# Altium footprint library FreedomKL25Z.PcbLib: 1 footprints
Each footprint in its own frame and in the unit in brackets; x right, y up, seen from the top. Pads: shape width x height; smd on the part's side, far side on the other; paste and mask are expansions set on the pad; w line width, h text height; cw(c..) or ccw(c..) is an arc to the next point about the centre after c.
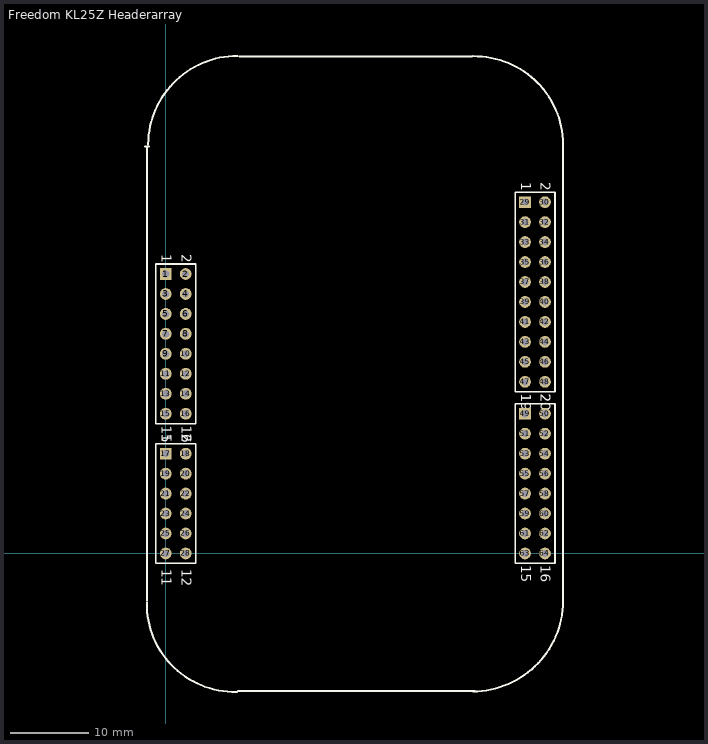
[diagram p0: the footprint, top view; thin cyan lines are the x and y axes]

## Freedom KL25Z Headerarray [mm] "Headerarray KL25Z Shield"
pads (64):
  rect 1.5x1.5 hole 0.9: 1(0,35.56) 17(0,12.7) 29(45.72,44.704) 49(45.72,17.78)
  round 1.5 hole 0.9: 2(2.54,35.56) 3(0,33.02) 4(2.54,33.02) 5(0,30.48) 6(2.54,30.48) 7(0,27.94) 8(2.54,27.94) 9(0,25.4) 10(2.54,25.4) 11(0,22.86) 12(2.54,22.86) 13(0,20.32) 14(2.54,20.32) 15(0,17.78) 16(2.54,17.78) 18(2.54,12.7) 19(0,10.16) 20(2.54,10.16) 21(0,7.62) 22(2.54,7.62) 23(0,5.08) 24(2.54,5.08) 25(0,2.54) 26(2.54,2.54) 27(0,0) 28(2.54,0) 30(48.26,44.704) 31(45.72,42.164) 32(48.26,42.164) 33(45.72,39.624) 34(48.26,39.624) 35(45.72,37.084) 36(48.26,37.084) 37(45.72,34.544) 38(48.26,34.544) 39(45.72,32.004) 40(48.26,32.004) 41(45.72,29.464) 42(48.26,29.464) 43(45.72,26.924) 44(48.26,26.924) 45(45.72,24.384) 46(48.26,24.384) 47(45.72,21.844) 48(48.26,21.844) 50(48.26,17.78) 51(45.72,15.24) 52(48.26,15.24) 53(45.72,12.7) 54(48.26,12.7) 55(45.72,10.16) 56(48.26,10.16) 57(45.72,7.62) 58(48.26,7.62) 59(45.72,5.08) 60(48.26,5.08) 61(45.72,2.54) 62(48.26,2.54) 63(45.72,0) 64(48.26,0)
Top Overlay:
  lines w0.2: -1.27,-1.27 3.81,-1.27 3.81,13.97 -1.27,13.97 -1.27,-1.27 ; -1.27,16.51 -1.27,36.83 3.81,36.83 3.81,16.51 -1.27,16.51 ; 44.45,-1.27 44.45,19.05 49.53,19.05 49.53,-1.27 44.45,-1.27 ; 44.45,20.574 44.45,44.069 44.45,45.974 49.53,45.974 49.53,44.069 49.53,20.574 44.45,20.574
  lines w0.254: -2.667,51.816 -2.159,51.816 ; -2.413,-6.223 ccw(c8.792,-6.408) 9.016,-17.613 ; -2.413,-5.969 -2.413,51.816 ; -2.236,52.067 cw(c9.144,51.943) 9.144,63.324 ; 9.057,-17.653 9.184,-17.526 17.207,-17.526 31.474,-17.526 39.37,-17.526 ; 9.398,63.246 38.947,63.246 ; 37.977,63.206 cw(c39.243,51.943) 50.531,50.928 ; 39.084,-17.56 ccw(c38.989,-5.969) 50.571,-5.49 ; 50.546,-5.588 50.546,51.308
  text "2" at 2.032,15.24 h1.27
  text "1" at -0.508,15.24 h1.27
  text "1" at -0.508,-2.032 h1.27
  text "1" at -0.508,-3.048 h1.27
  text "12" at 2.032,-2.032 h1.27
  text "16" at 2.032,16.256 h1.27
  text "15" at -0.508,16.256 h1.27
  text "1" at -0.508,38.1 h1.27
  text "2" at 2.032,38.1 h1.27
  text "16" at 47.752,-1.524 h1.27
  text "15" at 45.212,-1.524 h1.27
  text "1" at 45.212,20.32 h1.27
  text "2" at 47.752,20.32 h1.27
  text "2" at 47.752,47.244 h1.27
  text "1" at 45.212,47.244 h1.27
  text "19" at 45.212,20.32 h1.27
  text "20" at 47.752,20.32 h1.27